# Altium footprint library Diode.PcbLib: 1 footprints
Each footprint in its own frame and in the unit in brackets; x right, y up, seen from the top. Pads: shape width x height; smd on the part's side, far side on the other; paste and mask are expansions set on the pad; w line width, h text height; cw(c..) or ccw(c..) is an arc to the next point about the centre after c.
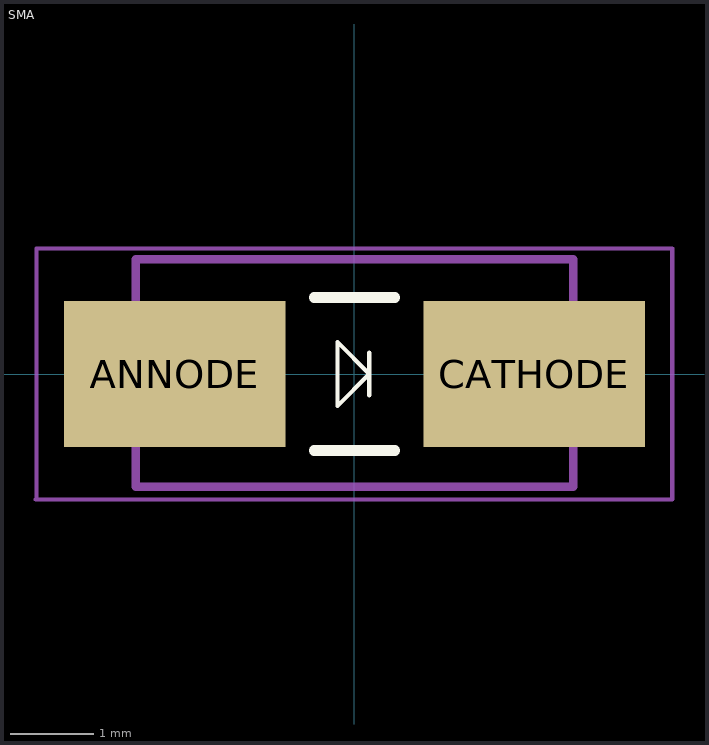
[diagram p0: the footprint, top view; thin cyan lines are the x and y axes]

## SMA [mm]
pads (2):
  rect 2.65x1.75 smd: ANNODE(-2.15,0) CATHODE(2.15,0)
Top Overlay:
  lines w0.05: 0.178,-0.254 0.178,0.254 0.178,0 ; 0.178,0 -0.203,0.381 -0.203,0 -0.203,-0.381 0.178,0
  lines w0.127: -0.483,-0.914 0.483,-0.914 ; -0.483,0.914 0.483,0.914
Mechanical 13:
  lines w0.1: -2.616,-1.346 2.616,-1.346 2.616,1.372 -2.616,1.372 -2.616,-1.346
Mechanical 15:
  lines w0.05: -3.81,-1.5 -3.8,-1.49 -3.8,1.499 -3.799,1.5 3.8,1.5 3.8,-1.499 3.799,-1.5 -3.81,-1.5
3D body "Diode SMT.STEP": height 2.7, standoff 0, extent -2.6,-1.362 2.6,1.362